# EAGLE library part MAX4564 (library jpnewman)
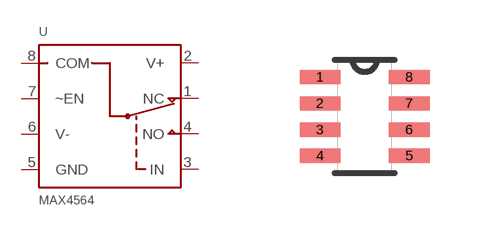
[diagram p20: symbol with the pads of SOT65P300X175-N; footprint SOT65P300X175-N]

Designator prefix -

## MAX4564  [SOT65P300X175-N]
1  NC
2  V+
3  IN
4  NO
5  GND  pwr
6  V-  pwr
7  ~EN
8  COM  sup

## Footprint SOT65P300X175-N (pad centres in mm)
smd 1.016 x 0.356: 1 -1.118,0.66; 2 -1.118,0; 3 -1.118,-0.66; 4 -1.118,-1.31; 5 1.118,-1.31; 6 1.118,-0.66; 7 1.118,0; 8 1.118,0.66